# EAGLE library part SSW-111-02-S-S (library con-samtec)
THROUGH-HOLE .025" SQ POST SOCKET Source: Samtec SSW.pdf
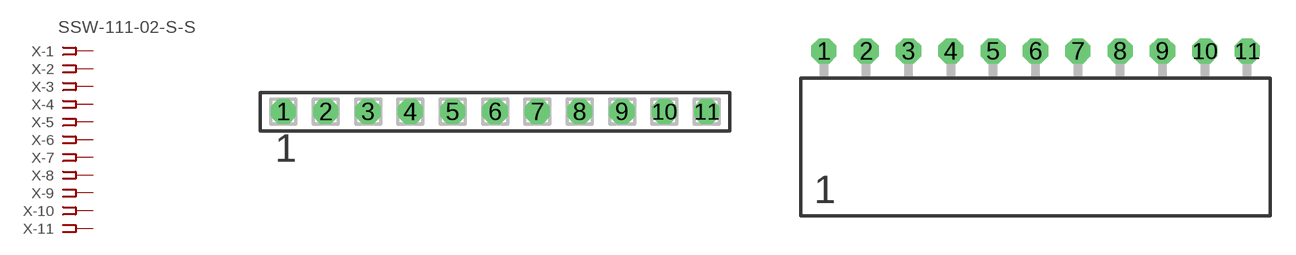
[diagram p93: symbol with the pads of SSW-111-02-S-S; footprints SSW-111-02-S-S, SSW-111-02-S-S-RA]

Designator prefix X; gates -1=FPINV -2=FPIN -3=FPIN -4=FPIN -5=FPIN -6=FPIN -7=FPIN -8=FPIN -9=FPIN -10=FPIN -11=FPIN

## SSW-111-02-S-S (MPN: SSW-111-02-S-S; OC_FARNELL: unknown; OC_NEWARK: 11P9498)  [SSW-111-02-S-S]
1  -1:1  pas
2  -2:1  pas
3  -3:1  pas
4  -4:1  pas
5  -5:1  pas
6  -6:1  pas
7  -7:1  pas
8  -8:1  pas
9  -9:1  pas
10  -10:1  pas
11  -11:1  pas

## SSW-111-02-S-S-RA (MPN: SSW-111-02-S-S-RA; OC_FARNELL: unknown; OC_NEWARK: 11P9499)  [SSW-111-02-S-S-RA]
Pads as for SSW-111-02-S-S

## Footprint SSW-111-02-S-S (pad centres in mm)
THROUGH-HOLE .025" SQ POST SOCKET Source: Samtec SSW.pdf
drill 1 pad 1.5 octagon: 1 -12.7,0; 2 -10.16,0; 3 -7.62,0; 4 -5.08,0; 5 -2.54,0; 6 0,0; 7 2.54,0; 8 5.08,0; 9 7.62,0; 10 10.16,0; 11 12.7,0

## Footprint SSW-111-02-S-S-RA (pad centres in mm)
THROUGH-HOLE .025" SQ POST SOCKET Source: Samtec SSW.pdf
drill 1 pad 1.5 octagon: 1 -12.7,1.524; 2 -10.16,1.524; 3 -7.62,1.524; 4 -5.08,1.524; 5 -2.54,1.524; 6 0,1.524; 7 2.54,1.524; 8 5.08,1.524; 9 7.62,1.524; 10 10.16,1.524; 11 12.7,1.524